# Altium integrated library S23305-8.000-X-R.IntLib: 1 symbol
Pins are listed as number, name and electrical type; pins without a type are passive.

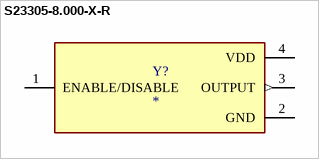
[diagram p0: symbol S23305-8.000-X-R]

## S23305-8.000-X-R
designator Y?
MP: S23305-8.000-X-R; Package: None; Price: None; Value: *; Availability: Unavailable
footprint OSC_S23305-8.000-X-R
pins: 1 ENABLE/DISABLE, 2 GND (power), 3 OUTPUT (out), 4 VDD (power)